# Altium footprint library PcbLib1.PcbLib: 11 footprints
Each footprint in its own frame and in the unit in brackets; x right, y up, seen from the top. Pads: shape width x height; smd on the part's side, far side on the other; paste and mask are expansions set on the pad; w line width, h text height; cw(c..) or ccw(c..) is an arc to the next point about the centre after c.
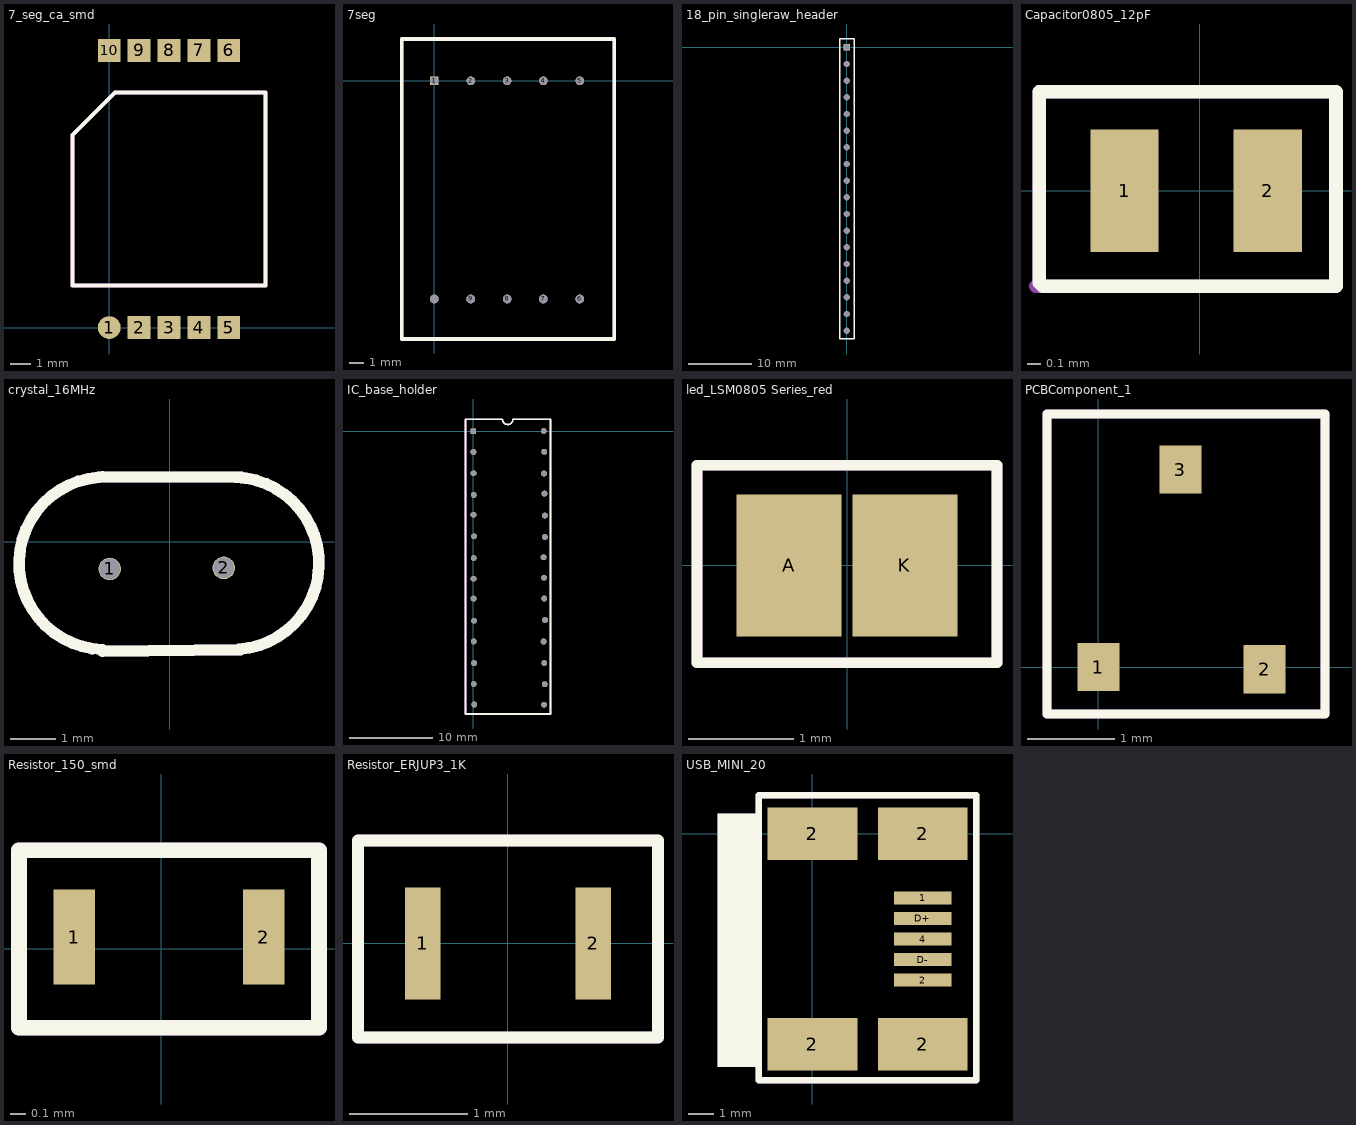
[diagram p0: the footprints below, top view; thin cyan lines are the x and y axes]

## 7_seg_ca_smd [mm]
pads (10):
  round 1.1 smd: 1(0,0)
  rect 1.1x1.1 smd: 2(1.44,0) 3(2.88,0) 4(4.32,0) 5(5.76,0) 6(5.76,13.36) 7(4.32,13.36) 8(2.88,13.36) 9(1.44,13.36) 10(0,13.36)
Top Overlay:
  lines w0.2: -1.765,2.035 -1.765,9.29 0.27,11.325 7.525,11.325 7.525,2.035 -1.765,2.035
Mechanical 29:
  lines w0.2: -1.765,2.035 -1.765,9.29 0.27,11.325 7.525,11.325 7.525,2.035 -1.765,2.035
3D body "User Library-KCSA56-104.STEP": height 3.75, standoff -0.04, extent -2.875,-3.05 9.525,15.95

## 7seg [mm]
pads (10):
  rect 0.6x0.6 hole 0.6: 1(0,0)
  round 0.6 hole 0.6: 2(2.55,0) 3(5.08,0) 4(7.62,0) 5(10.16,0) 6(10.16,-15.24) 7(7.62,-15.24) 8(5.08,-15.24) 9(2.54,-15.24) 10(0,-15.24)
Top Overlay:
  lines w0.254: -2.286,-18.034 12.573,-18.034 12.573,2.921 -2.286,2.921 -2.286,-18.034
Mechanical 1:
  lines w0.254: -2.286,-18.034 -2.286,2.921 12.573,2.921 12.573,-18.034 -2.286,-18.034
Mechanical 29:
  lines w0.254: -2.286,-18.034 12.573,-18.034 12.573,2.921 -2.286,2.921 -2.286,-18.034
  text "display" at 6.8,-6.967 h0.7
3D body "User Library-7-Segment.STEP": height 8.82, standoff -5.48, extent -1.22,-17.12 11.38,1.88

## 18_pin_singleraw_header [mm]
pads (18):
  rect 1x1 hole 1: 1(0,0)
  round 0.66 hole 1: 2(0,-2.64) 3(0,-5.28) 4(0,-7.92) 5(0,-10.56) 6(0,-13.2) 7(0,-15.84) 8(0,-18.48) 9(0,-21.12) 10(0,-23.76) 11(0,-26.4) 12(0,-29.04) 13(0,-31.68) 14(0,-34.32) 15(0,-36.96) 16(0,-39.6) 17(0,-42.24) 18(0,-44.88)
Top Overlay:
  lines w0.2: -1.1,-46.2 1.165,-46.2 1.165,1.32 -1.1,1.32 -1.1,-46.2
3D body "pin_header_aw_108_02-t.stp": height 9.4, standoff -3, extent -1.195,-46.015 1.301,-40.935
3D body "pin_header_aw_108_02-t.stp": height 9.4, standoff -3, extent -1.195,-40.735 1.301,-35.655
3D body "pin_header_aw_108_02-t.stp": height 9.4, standoff -3, extent -1.195,-35.455 1.301,-30.375
3D body "pin_header_aw_108_02-t.stp": height 9.4, standoff -3, extent -1.195,-30.175 1.301,-25.095
3D body "pin_header_aw_108_02-t.stp": height 9.4, standoff -3, extent -1.195,-24.895 1.301,-19.815
3D body "pin_header_aw_108_02-t.stp": height 9.4, standoff -3, extent -1.195,-19.615 1.301,-14.535
3D body "pin_header_aw_108_02-t.stp": height 9.4, standoff -3, extent -1.195,-14.335 1.301,-9.255
3D body "pin_header_aw_108_02-t.stp": height 9.4, standoff -3, extent -1.195,-9.055 1.301,-3.975
3D body "pin_header_aw_108_02-t.stp": height 9.4, standoff -3, extent -1.195,-3.775 1.301,1.305

## Capacitor0805_12pF [mm]
pads (2):
  rect 0.5x0.9 smd: 1(-0.55,0) 2(0.5,0)
Top Overlay:
  lines w0.1: -1.175,-0.675 -1.15,-0.7 1,-0.7 1,0.725 -1.175,0.725 -1.175,-0.675
Mechanical 29:
  lines w0.1: -1.2,-0.7 -1.175,-0.675 -1.175,0.725 -1.1,0.725 1,0.725 1,-0.7 -1.2,-0.7
  text "capcitor" at 0.35,-0.017 h0.1
3D body "c1608ch1h180j_18pF.stp": height 0.46, standoff 0.01, extent -0.825,-0.4 0.775,0.4

## crystal_16MHz [mm]
pads (2):
  round 0.5 hole 0.457: 1(-1.325,-0.6) 2(1.2,-0.575)
Top Overlay:
  lines w0.254: -1.563,1.429 ccw(c-1.425,-0.475) -1.485,-2.383 ; -1.485,-2.425 1.563,-2.391 ; -1.485,1.445 1.586,1.431 ; 1.46,1.433 cw(c1.4,-0.475) 1.538,-2.379
Mechanical 29:
  lines w0.254: -1.563,1.429 ccw(c-1.425,-0.475) -1.485,-2.383 ; -1.485,-2.425 1.563,-2.391 ; -1.485,1.445 1.586,1.431 ; 1.46,1.433 cw(c1.4,-0.475) 1.538,-2.379
  text "osci" at 0.1,0.1 h0.7
3D body "User Library-Crystal 16 MHZ.step": height 1.81, standoff -7.49, extent -3.45,-2.575 3.35,1.425

## IC_base_holder [mm]
pads (28):
  rect 0.7x0.7 hole 0.7: 1(0,0)
  round 0.7 hole 0.7: 2(0.025,-2.5) 3(0.05,-5.075) 4(0.075,-7.675) 5(0.025,-10.075) 6(0.1,-12.675) 7(0.075,-15.3) 8(0.05,-17.8) 9(0.05,-20.195) 10(0.1,-22.875) 11(0.075,-25.35) 12(0.1,-27.975) 13(0.075,-30.5) 14(0.125,-32.975) 15(8.55,-33) 16(8.625,-30.525) 17(8.575,-27.975) 18(8.5,-25.375) 19(8.675,-22.775) 20(8.575,-20.175) 21(8.55,-17.675) 22(8.5,-15.2) 23(8.65,-12.75) 24(8.65,-10.175) 25(8.6,-7.525) 26(8.55,-5.1) 27(8.575,-2.475) 28(8.52,0.025)
Top Overlay:
  lines w0.2: -0.925,-34.115 9.325,-34.115 9.325,1.445 4.795,1.445 cw(c4.16,1.445) 3.525,1.445 -0.925,1.445 -0.925,-34.115
Mechanical 29:
  lines w0.2: -0.925,-34.115 9.325,-34.115 9.325,1.445 4.795,1.445 cw(c4.16,1.445) 3.525,1.445 -0.925,1.445 -0.925,-34.115
  text "atmega328" at 2.154,-15.638 h1.52
3D body "atmega328-pu.stp": height 4, standoff -3.3, extent -0.551,-33.775 9.125,0.825

## led_LSM0805 Series_red [mm]
pads (2):
  rect 1x1.35 smd: A(-0.55,0) K(0.55,0)
Top Overlay:
  lines w0.1: -1.425,-0.925 -1.425,0 -1.425,0.95 1.425,0.95 1.425,-0.925 -1.4,-0.925
Mechanical 29:
  lines w0.1: -1.425,-0.925 -1.425,0 -1.425,0.95 1.425,0.95 1.425,-0.925 -1.4,-0.925
  text "LED" at 0.88,-0.22 h0.3
3D body "everlight-17-21-0805LED-red.step": height 1.11, standoff 0, extent -1.025,-0.625 0.975,0.625

## PCBComponent_1 [mm]
pads (3):
  rect 0.48x0.55 smd: 1(0,0) 2(1.9,-0.025) 3(0.939,2.257)
Top Overlay:
  lines w0.1: -0.585,-0.537 -0.585,2.892 2.59,2.892 2.59,-0.537 -0.585,-0.537
Mechanical 29:
  lines w0.1: -0.585,-0.537 -0.585,2.892 2.59,2.892 2.59,-0.537 -0.585,-0.537
  text "BC457" at 1.68,1.08 h0.3
3D body "User Library-SOT23-3.STEP": height 1.3, standoff 0, extent -0.511,-0.286 2.389,2.514

## Resistor_150_smd [mm]
pads (2):
  rect 0.26x0.6 smd: 1(-0.55,0.075) 2(0.65,0.075)
Top Overlay:
  lines w0.1: -0.9,-0.5 -0.9,0.625 1,0.625 1,-0.5 -0.9,-0.5
Mechanical 29:
  lines w0.1: -0.9,-0.5 -0.9,0.625 1,0.625 1,-0.5 -0.9,-0.5
  text "resistor" at -0.22,-0.02 h0.3
3D body "mcr03ezhj151.stp": height 0.46, standoff 0.01, extent -0.75,-0.325 0.85,0.475

## Resistor_ERJUP3_1K [mm]
pads (2):
  rect 0.3x0.95 smd: 1(-0.725,0) 2(0.725,0)
Top Overlay:
  lines w0.1: -1.275,-0.8 -1.275,0.025 -1.275,0.875 1.275,0.875 1.275,-0.8 -1.275,-0.8
Mechanical 29:
  lines w0.1: -1.275,-0.8 -1.275,0.025 -1.275,0.875 1.275,0.875 1.275,-0.8 -1.275,-0.8
  text "resistor" at -0.32,-0.02 h0.3
3D body "erj3rbd1001v.stp": height 0.46, standoff 0.01, extent -0.8,-0.4 0.8,0.4

## USB_MINI_20 [mm]
pads (9):
  rect 2.25x0.5 smd: 1(4.3,-2.5) 2(4.3,-5.7) 4(4.3,-4.1) D+(4.3,-3.3) D-(4.3,-4.9)
  rect 3.5x2.05 smd: 2(0,-8.2) 2(0,0) 2(4.3,-8.2) 2(4.3,0)
Top Overlay:
  rectangle: -3.7,-9.1 -2.2,0.8
  lines w0.254: -2.1,-9.6 6.4,-9.6 6.4,1.5 -2.1,1.5 -2.1,-9.6
Mechanical 29:
  rectangle: -3.7,-9.1 -2.2,0.8
  lines w0.254: -2.1,-9.6 6.4,-9.6 6.4,1.5 -2.1,1.5 -2.1,-9.6
  text "USB B" at 1.454,-4.546 h1.52
3D body "usb_a-usb_b-m5-smd-c.stp": height 3.86, standoff -0.99, extent -3.7,-9.05 5.5,0.85